# EAGLE library part IMCV9 (library con-phoenix-381)
Invertierter Mini-Combicon 3.81mm vertikal 9-polig IMCV 1,5/9-G-3,81 (ohne Gegenstecker)
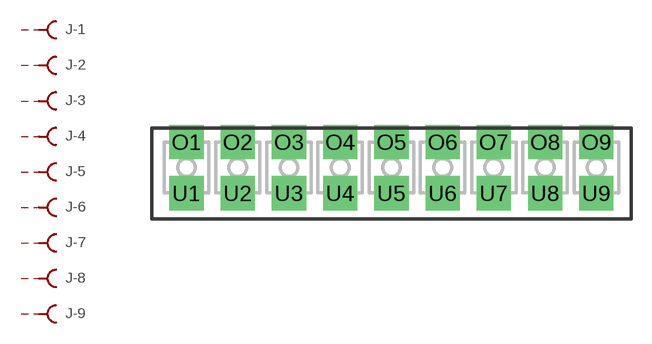
[diagram p30: symbol with the pads of IMCV9; footprint IMCV9]

Designator prefix J; gates -5=MCBU -4=MCBU -3=MCBU -2=MCBU -1=MCBU -6=MCBU -7=MCBU -8=MCBU -9=MCBU

## IMCV9  [IMCV9]
O1  -1:S  pas
O2  -2:S  pas
O3  -3:S  pas
O4  -4:S  pas
O5  -5:S  pas
O6  -6:S  pas
O7  -7:S  pas
O8  -8:S  pas
O9  -9:S  pas
U1  -1:SK  pas
U2  -2:SK  pas
U3  -3:SK  pas
U4  -4:SK  pas
U5  -5:SK  pas
U6  -6:SK  pas
U7  -7:SK  pas
U8  -8:SK  pas
U9  -9:SK  pas

## Footprint IMCV9 (pad centres in mm)
Mini-Combicon 3.81mm vertical 9-polig invertiert IMCV 1,5/9-G-3,81 Artikel-Nr. 1875496
drill 1.27 pad 2.54 square: O1 -15.24,1.905; O2 -11.43,1.905; O3 -7.62,1.905; O4 -3.81,1.905; O5 0,1.905; O6 3.81,1.905; O7 7.62,1.905; O8 11.43,1.905; O9 15.24,1.905; U1 -15.24,-1.905; U2 -11.43,-1.905; U3 -7.62,-1.905; U4 -3.81,-1.905; U5 0,-1.905; U6 3.81,-1.905; U7 7.62,-1.905; U8 11.43,-1.905; U9 15.24,-1.905